# Altium integrated library 51开发板集成库.IntLib: 26 symbols
Pins are listed as number, name and electrical type; pins without a type are passive.

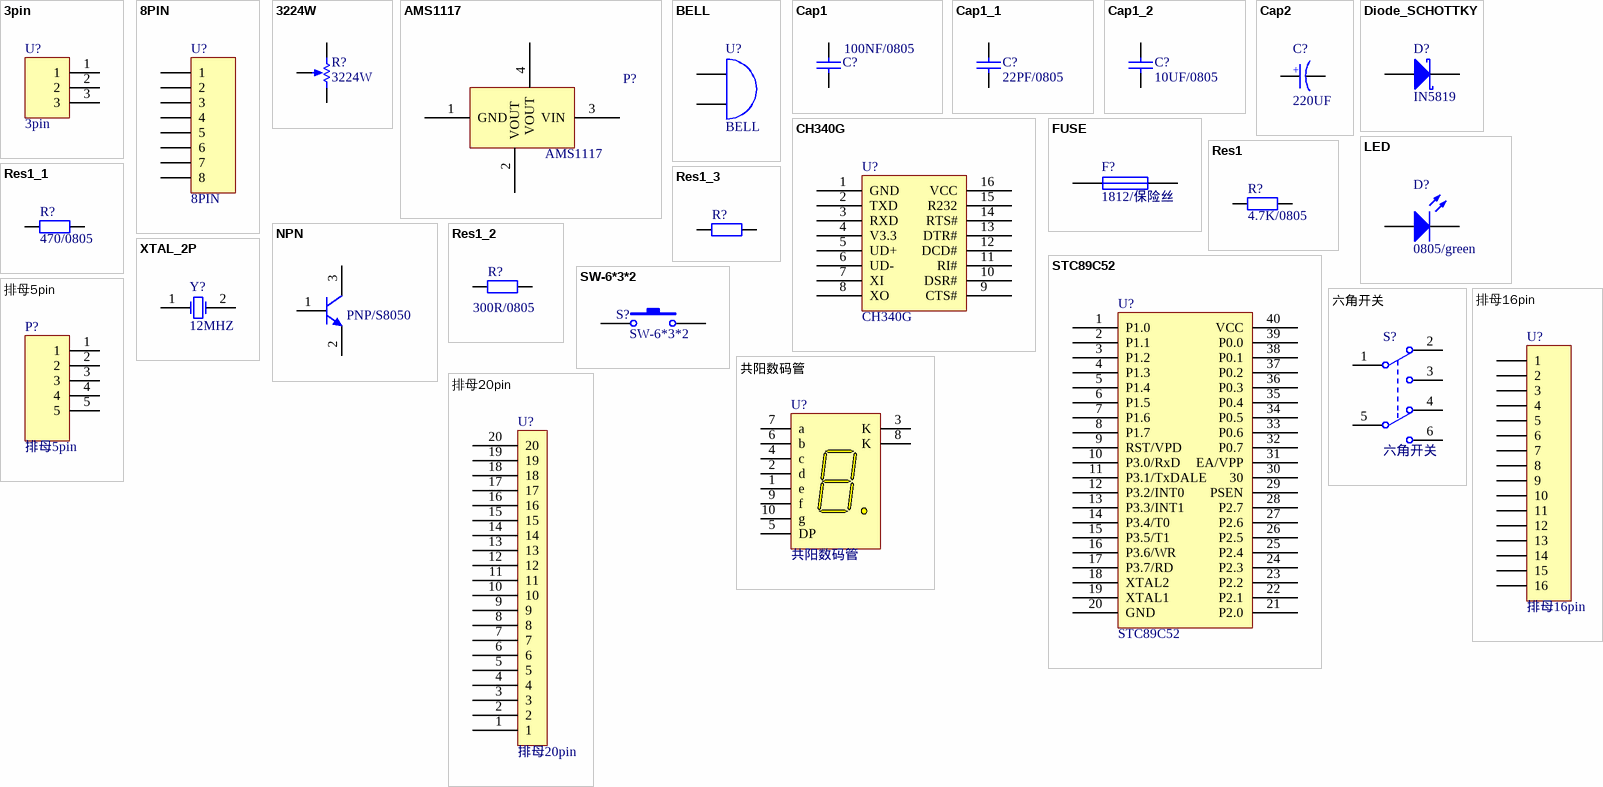
[diagram p0: symbols 3pin to 排母20pin]

## 3pin
designator U?
footprint 红外
pins: 1, 2, 3

## 8PIN
designator U?
footprint 8PIN-2.54
pins: 1, 2, 3, 4, 5, 6, 7, 8

## 3224W
designator R?
footprint R_3324W (电位器)
pins: 1 BOT, 2 TAP, 3 TOP

## AMS1117
designator P?
footprint AMS1117
pins: 1 GND, 2 VOUT, 3 VIN, 4 VOUT

## BELL
designator U?
footprint BELL
pins: 1 A, 2 B

## Cap1
designator C?, comment 100NF/0805
贴片电容
footprint C_0805
pins: 1, 2

## Cap1_1
designator C?, comment 22PF/0805
贴片电容
footprint C_0805
pins: 1, 2

## Cap1_2
designator C?, comment 10UF/0805
贴片电容
footprint C_0805
pins: 1, 2

## Cap2
designator C?, comment 220UF
电解电容
footprint C-电解电容
pins: 1 A, 2 15
text: +

## CH340G
designator U?
footprint CH340G
pins: 1 GND, 2 TXD, 3 RXD, 4 V3.3, 5 UD+, 6 UD-, 7 XI, 8 XO, 9 CTS#, 10 DSR#, 11 RI#, 12 DCD#, 13 DTR#, 14 RTS#, 15 R232, 16 VCC

## Diode_SCHOTTKY
designator D?, comment IN5819
肖特基二极管
footprint D-SMA
pins: 1 K, 2 A

## FUSE
designator F?, comment 1812/保险丝
贴片保险丝
footprint FUSE-1812
pins: 1, 2

## LED
designator D?, comment 0805/green
发光二极管
footprint LED_0805
pins: 1 A1, 2

## NPN
designator PNP?, comment PNP/S8050
footprint SOT-23_3
pins: 1 B, 2 E, 3 C

## Res1
designator R?, comment 4.7K/0805
贴片电阻
footprint R_0805
pins: 1, 2

## Res1_1
designator R?, comment 470/0805
贴片电阻
footprint R_0805
pins: 1, 2

## Res1_2
designator R?, comment 300R/0805
贴片电阻
footprint R_0805
pins: 1, 2

## Res1_3
designator R?, comment ?/?  (value not drawn)
贴片电阻
footprint R_0805
pins: 1, 2

## STC89C52
designator U?
footprint STC89C51
pins: 1 P1.0, 2 P1.1, 3 P1.2, 4 P1.3, 5 P1.4, 6 P1.5, 7 P1.6, 8 P1.7, 9 RST/VPD, 10 P3.0/RxD, 11 P3.1/TxDALE, 12 P3.2/INT0, 13 P3.3/INT1, 14 P3.4/T0, 15 P3.5/T1, 16 P3.6/WR, 17 P3.7/RD, 18 XTAL2, 19 XTAL1, 20 GND, 21 P2.0, 22 P2.1, 23 P2.2, 24 P2.3, 25 P2.4, 26 P2.5, 27 P2.6, 28 P2.7, 29 PSEN, 30, 31 EA/VPP, 32 P0.7, 33 P0.6, 34 P0.5, 35 P0.4, 36 P0.3, 37 P0.2, 38 P0.1, 39 P0.0, 40 VCC

## SW-6*3*2
designator S?
footprint SW-3*6*2.5
pins: 1, 2

## XTAL_2P
designator Y?, comment 12MHZ
二脚无源晶振
footprint HC495
pins: 1 OSC1, 2 OSC2

## 六角开关
designator S?
footprint 六角开关7X7
pins: 1 COMMON1, 2 NC1, 3 NO1, 4 NC2, 5 COMMON2, 6 NO2

## 共阳数码管
designator U?
footprint 数码管
pins: 1 e "Anode", 2 d "Anode", 3 K "Cathode", 4 c "Anode", 5 DP "Anode", 6 b "Anode", 7 a "Anode", 8 K "Cathode", 9 f "Anode", 10 g "Anode"

## 排母5pin
designator P?
footprint 排母2.54-5PIN
pins: 1, 2, 3, 4, 5

## 排母16pin
designator U?
footprint 16pin-2.54
pins: 1, 2, 3, 4, 5, 6, 7, 8, 9, 10, 11, 12, 13, 14, 15, 16

## 排母20pin
designator U?
footprint 20PIN-2.54
pins: 1, 2, 3, 4, 5, 6, 7, 8, 9, 10, 11, 12, 13, 14, 15, 16, 17, 18, 19, 20